# Altium footprint library TFBS4711.PcbLib: 1 footprints
Each footprint in its own frame and in the unit in brackets; x right, y up, seen from the top. Pads: shape width x height; smd on the part's side, far side on the other; paste and mask are expansions set on the pad; w line width, h text height; cw(c..) or ccw(c..) is an arc to the next point about the centre after c.
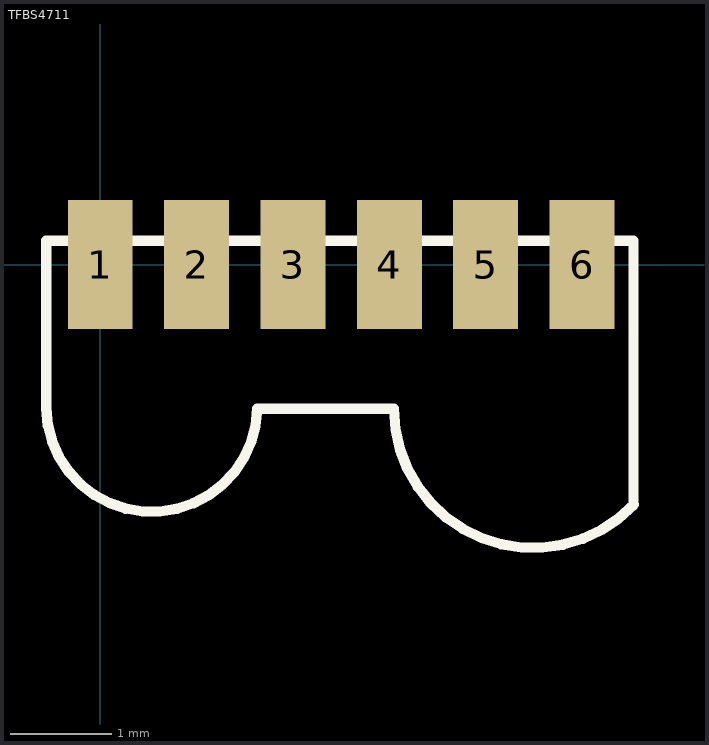
[diagram p0: the footprint, top view; thin cyan lines are the x and y axes]

## TFBS4711 [mm]
pads (6):
  rect 0.64x1.27 smd: 1(0,0) 2(0.95,0) 3(1.9,0) 4(2.85,0) 5(3.8,0) 6(4.75,0)
Top Overlay:
  lines w0.102: 5.258,-2.362 5.258,0.235 -0.533,0.235 -0.533,-1.415 ccw(c0.508,-1.397) 1.549,-1.422 2.896,-1.422 ccw(c4.267,-1.422) 5.262,-2.366
3D body: height 1.92, standoff 0.02, extent -0.622,-2.762 5.372,0.235